# EAGLE library part TPS54620 (library Deegou_IC)
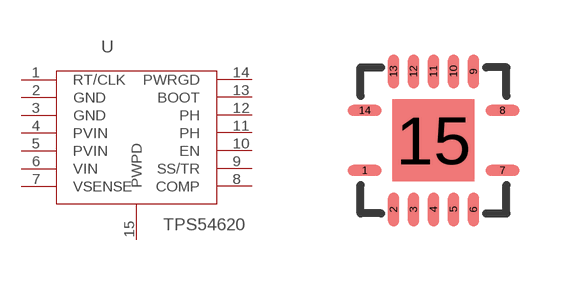
[diagram p177: symbol with the pads of VQFN-14; footprint VQFN-14]

Designator prefix U

## TPS54620  [VQFN-14]
1  RT/CLK
2  GND
3  GND
4  PVIN
5  PVIN
6  VIN
7  VSENSE
8  COMP
9  SS/TR
10  EN
11  PH
12  PH
13  BOOT
14  PWRGD
15  PWPD

## Footprint VQFN-14 (pad centres in mm)
smd 0.85 x 0.28: 1 -1.725,-0.75; 7 1.725,-0.75; 8 1.725,0.75; 14 -1.725,0.75
smd 0.28 x 0.85: 2 -1,-1.725; 3 -0.5,-1.725; 4 0,-1.725; 5 0.5,-1.725; 6 1,-1.725; 9 1,1.725; 10 0.5,1.725; 11 0,1.725; 12 -0.5,1.725; 13 -1,1.725
smd 2.05 x 2.05: 15 0,0